# Altium integrated library Capacitor - Aluminium TH.IntLib: 4591 symbols (part 19 of 68)
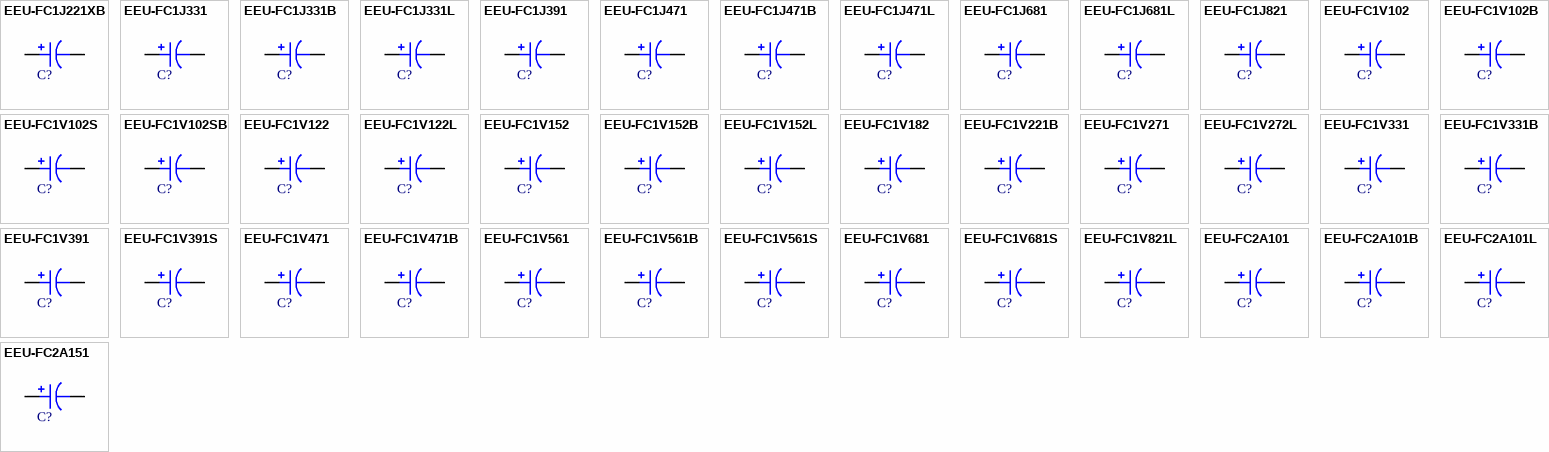
[diagram p132: symbols EEU-FC1J221XB to EEU-FC2A151]

## EEU-FC1J471
designator C?, comment 470uF  (value not drawn)
CAP ALUM 470UF 20% 63V RADIAL; Part Number: EEU-FC1J471; Manufacturer: Panasonic Electronic Components; TemperatureRange: -55C ~ 105C; Type: Polar; Ripple Current: 1.324A @ 120Hz; Impedance: 59 mOhm; Value: 470uF; PartId: 26293; Supplier 1: Digi-Key; Supplier Part Number 1: P10352-ND; ComponentLink1Description: Datasheet; ComponentLink1URL: http://industrial.panasonic.com/www-cgi/jvcr13pz.cgi?E+PZ+3+ABA0022+EEUFC1J471+7+WW; ComponentLink2Description: Digi-Key Listing; ComponentLink2URL: https://www.digikey.com/product-detail/en/panasonic-electronic-components/EEU-FC1J471/P10352-ND/266361; Tolerance: 20%; Voltage: 63V; Price: 1.09; Device Package: Radial, Can, 16mm
footprint CAP AL TH D16 L7.5 H20
pins: 1, 2

## EEU-FC1J471B
designator C?, comment 470uF  (value not drawn)
CAP ALUM 470UF 20% 63V RADIAL; Part Number: EEU-FC1J471B; Manufacturer: Panasonic Electronic Components; TemperatureRange: -55C ~ 105C; Type: Polar; Ripple Current: 1.324A @ 120Hz; Impedance: 59 mOhm; Value: 470uF; PartId: 26372; Supplier 1: Digi-Key; Supplier Part Number 1: P19670TB-ND; ComponentLink1Description: Datasheet; ComponentLink1URL: http://industrial.panasonic.com/www-cgi/jvcr13pz.cgi?E+PZ+3+ABA0022+EEUFC1J471B+7+WW; ComponentLink2Description: Digi-Key Listing; ComponentLink2URL: https://www.digikey.com/product-detail/en/panasonic-electronic-components/EEU-FC1J471B/P19670TB-ND/2689736; Tolerance: 20%; Voltage: 63V; Price: 0.6042; Device Package: Radial, Can, 16mm
footprint CAP AL TH D16 L7.5 H22
pins: 1, 2

## EEU-FC1J471L
designator C?, comment 470uF  (value not drawn)
CAP ALUM 470UF 20% 63V RADIAL; Part Number: EEU-FC1J471L; Manufacturer: Panasonic Electronic Components; TemperatureRange: -55C ~ 105C; Type: Polar; Ripple Current: 1.568A @ 120Hz; Impedance: 55 mOhm; Value: 470uF; PartId: 24245; Supplier 1: Digi-Key; Supplier Part Number 1: P10351-ND; ComponentLink1Description: Datasheet; ComponentLink1URL: http://industrial.panasonic.com/www-cgi/jvcr13pz.cgi?E+PZ+3+ABA0022+EEUFC1J471L+7+WW; ComponentLink2Description: Digi-Key Listing; ComponentLink2URL: https://www.digikey.com/product-detail/en/panasonic-electronic-components/EEU-FC1J471L/P10351-ND/266360; Tolerance: 20%; Voltage: 63V; Price: 1.02; Device Package: Radial, Can, 12.5mm
footprint CAP AL TH D12.5 L5 H35.5
pins: 1, 2

## EEU-FC1J681
designator C?, comment 680uF  (value not drawn)
CAP ALUM 680UF 20% 63V RADIAL; Part Number: EEU-FC1J681; Manufacturer: Panasonic Electronic Components; TemperatureRange: -55C ~ 105C; Type: Polar; Ripple Current: 1.62A @ 120Hz; Impedance: 50 mOhm; Value: 680uF; PartId: 26593; Supplier 1: Digi-Key; Supplier Part Number 1: P10354-ND; ComponentLink1Description: Datasheet; ComponentLink1URL: http://industrial.panasonic.com/www-cgi/jvcr13pz.cgi?E+PZ+3+ABA0022+EEUFC1J681+7+WW; ComponentLink2Description: Digi-Key Listing; ComponentLink2URL: https://www.digikey.com/product-detail/en/panasonic-electronic-components/EEU-FC1J681/P10354-ND/266363; Tolerance: 20%; Voltage: 63V; Price: 1.29; Device Package: Radial, Can, 16mm
footprint CAP AL TH D16 L7.5 H26.5
pins: 1, 2

## EEU-FC1J681L
designator C?, comment 680uF  (value not drawn)
CAP ALUM 680UF 20% 63V RADIAL; Part Number: EEU-FC1J681L; Manufacturer: Panasonic Electronic Components; TemperatureRange: -55C ~ 105C; Type: Polar; Ripple Current: 1.699A @ 120Hz; Impedance: 47 mOhm; Value: 680uF; PartId: 24314; Supplier 1: Digi-Key; Supplier Part Number 1: P10353-ND; ComponentLink1Description: Datasheet; ComponentLink1URL: http://industrial.panasonic.com/www-cgi/jvcr13pz.cgi?E+PZ+3+ABA0022+EEUFC1J681L+7+WW; ComponentLink2Description: Digi-Key Listing; ComponentLink2URL: https://www.digikey.com/product-detail/en/panasonic-electronic-components/EEU-FC1J681L/P10353-ND/266362; Tolerance: 20%; Voltage: 63V; Price: 1.25; Device Package: Radial, Can, 12.5mm
footprint CAP AL TH D12.5 L5 H35.5
pins: 1, 2

## EEU-FC1J821
designator C?, comment 820uF  (value not drawn)
CAP ALUM 820UF 20% 63V RADIAL; Part Number: EEU-FC1J821; Manufacturer: Panasonic Electronic Components; TemperatureRange: -55C ~ 105C; Type: Polar; Ripple Current: 2.003A @ 120Hz; Impedance: 43 mOhm; Value: 820uF; PartId: 27111; Supplier 1: Digi-Key; Supplier Part Number 1: P11278-ND; ComponentLink1Description: Datasheet; ComponentLink1URL: http://industrial.panasonic.com/www-cgi/jvcr13pz.cgi?E+PZ+3+ABA0022+EEUFC1J821+7+WW; ComponentLink2Description: Digi-Key Listing; ComponentLink2URL: https://www.digikey.com/product-detail/en/panasonic-electronic-components/EEU-FC1J821/P11278-ND/356178; Tolerance: 20%; Voltage: 63V; Price: 1.75; Device Package: Radial, Can, 16mm
footprint CAP AL TH D16 L7.5 H33.5
pins: 1, 2

## EEU-FC1V102
designator C?, comment 1000uF  (value not drawn)
CAP ALUM 1000UF 20% 35V RADIAL; Part Number: EEU-FC1V102; Manufacturer: Panasonic Electronic Components; TemperatureRange: -55C ~ 105C; Type: Polar; Ripple Current: 1.459A @ 120Hz; Impedance: 30 mOhm; Value: 1000uF; PartId: 23581; Supplier 1: Digi-Key; Supplier Part Number 1: P10305-ND; ComponentLink1Description: Datasheet; ComponentLink1URL: http://industrial.panasonic.com/www-cgi/jvcr13pz.cgi?E+PZ+3+ABA0022+EEUFC1V102+7+WW; ComponentLink2Description: Digi-Key Listing; ComponentLink2URL: https://www.digikey.com/product-detail/en/panasonic-electronic-components/EEU-FC1V102/P10305-ND/266314; Tolerance: 20%; Voltage: 35V; Price: 0.99; Device Package: Radial, Can, 12.5mm
footprint CAP AL TH D12.5 L5 H25
pins: 1, 2

## EEU-FC1V102B
designator C?, comment 1000uF  (value not drawn)
CAP ALUM 1000UF 20% 35V RADIAL; Part Number: EEU-FC1V102B; Manufacturer: Panasonic Electronic Components; TemperatureRange: -55C ~ 105C; Type: Polar; Ripple Current: 1.459A @ 120Hz; Impedance: 30 mOhm; Value: 1000uF; PartId: 23821; Supplier 1: Digi-Key; Supplier Part Number 1: P19672TB-ND; ComponentLink1Description: Datasheet; ComponentLink1URL: http://industrial.panasonic.com/www-cgi/jvcr13pz.cgi?E+PZ+3+ABA0022+EEUFC1V102B+7+WW; ComponentLink2Description: Digi-Key Listing; ComponentLink2URL: https://www.digikey.com/product-detail/en/panasonic-electronic-components/EEU-FC1V102B/P19672TB-ND/2689750; Tolerance: 20%; Voltage: 35V; Price: 0.4401; Device Package: Radial, Can, 12.5mm
footprint CAP AL TH D12.5 L5 H27
pins: 1, 2

## EEU-FC1V102S
designator C?, comment 1000uF  (value not drawn)
CAP ALUM 1000UF 20% 35V RADIAL; Part Number: EEU-FC1V102S; Manufacturer: Panasonic Electronic Components; TemperatureRange: -55C ~ 105C; Type: Polar; Ripple Current: 1.654A @ 120Hz; Impedance: 29 mOhm; Value: 1000uF; PartId: 26297; Supplier 1: Digi-Key; Supplier Part Number 1: P10876-ND; ComponentLink1Description: Datasheet; ComponentLink1URL: http://industrial.panasonic.com/www-cgi/jvcr13pz.cgi?E+PZ+3+ABA0022+EEUFC1V102S+7+WW; ComponentLink2Description: Digi-Key Listing; ComponentLink2URL: https://www.digikey.com/product-detail/en/panasonic-electronic-components/EEU-FC1V102S/P10876-ND/285715; Tolerance: 20%; Voltage: 35V; Price: 1.11; Device Package: Radial, Can, 16mm
footprint CAP AL TH D16 L7.5 H20
pins: 1, 2

## EEU-FC1V102SB
designator C?, comment 1000uF  (value not drawn)
CAP ALUM 1000UF 20% 35V RADIAL; Part Number: EEU-FC1V102SB; Manufacturer: Panasonic Electronic Components; TemperatureRange: -55C ~ 105C; Type: Polar; Ripple Current: 1.654A @ 120Hz; Impedance: 29 mOhm; Value: 1000uF; PartId: 26766; Supplier 1: Digi-Key; Supplier Part Number 1: P19673TB-ND; ComponentLink1Description: Datasheet; ComponentLink1URL: http://industrial.panasonic.com/www-cgi/jvcr13pz.cgi?E+PZ+3+ABA0022+EEUFC1V102SB+7+WW; ComponentLink2Description: Digi-Key Listing; ComponentLink2URL: https://www.digikey.com/product-detail/en/panasonic-electronic-components/EEU-FC1V102SB/P19673TB-ND/2689751; Tolerance: 20%; Voltage: 35V; Price: 0.6042; Device Package: Radial, Can, 16mm
footprint CAP AL TH D16 L7.5 H27
pins: 1, 2

## EEU-FC1V122
designator C?, comment 1200uF  (value not drawn)
CAP ALUM 1200UF 20% 35V RADIAL; Part Number: EEU-FC1V122; Manufacturer: Panasonic Electronic Components; TemperatureRange: -55C ~ 105C; Type: Polar; Ripple Current: 1.764A @ 120Hz; Impedance: 29 mOhm; Value: 1200uF; PartId: 26294; Supplier 1: Digi-Key; Supplier Part Number 1: P11242-ND; ComponentLink1Description: Datasheet; ComponentLink1URL: http://industrial.panasonic.com/www-cgi/jvcr13pz.cgi?E+PZ+3+ABA0022+EEUFC1V122+7+WW; ComponentLink2Description: Digi-Key Listing; ComponentLink2URL: https://www.digikey.com/product-detail/en/panasonic-electronic-components/EEU-FC1V122/P11242-ND/356144; Tolerance: 20%; Voltage: 35V; Price: 1.09; Device Package: Radial, Can, 16mm
footprint CAP AL TH D16 L7.5 H20
pins: 1, 2

## EEU-FC1V122L
designator C?, comment 1200uF  (value not drawn)
CAP ALUM 1200UF 20% 35V RADIAL; Part Number: EEU-FC1V122L; Manufacturer: Panasonic Electronic Components; TemperatureRange: -55C ~ 105C; Type: Polar; Ripple Current: 1.848A @ 120Hz; Impedance: 25 mOhm; Value: 1200uF; PartId: 24247; Supplier 1: Digi-Key; Supplier Part Number 1: P10306-ND; ComponentLink1Description: Datasheet; ComponentLink1URL: http://industrial.panasonic.com/www-cgi/jvcr13pz.cgi?E+PZ+3+ABA0022+EEUFC1V122L+7+WW; ComponentLink2Description: Digi-Key Listing; ComponentLink2URL: https://www.digikey.com/product-detail/en/panasonic-electronic-components/EEU-FC1V122L/P10306-ND/266315; Tolerance: 20%; Voltage: 35V; Price: 1.02; Device Package: Radial, Can, 12.5mm
footprint CAP AL TH D12.5 L5 H35.5
pins: 1, 2

## EEU-FC1V152
designator C?, comment 1500uF  (value not drawn)
CAP ALUM 1500UF 20% 35V RADIAL; Part Number: EEU-FC1V152; Manufacturer: Panasonic Electronic Components; TemperatureRange: -55C ~ 105C; Type: Polar; Ripple Current: 2.044A @ 120Hz; Impedance: 22 mOhm; Value: 1500uF; PartId: 26595; Supplier 1: Digi-Key; Supplier Part Number 1: P10308-ND; ComponentLink1Description: Datasheet; ComponentLink1URL: http://industrial.panasonic.com/www-cgi/jvcr13pz.cgi?E+PZ+3+ABA0022+EEUFC1V152+7+WW; ComponentLink2Description: Digi-Key Listing; ComponentLink2URL: https://www.digikey.com/product-detail/en/panasonic-electronic-components/EEU-FC1V152/P10308-ND/266317; Tolerance: 20%; Voltage: 35V; Price: 1.3; Device Package: Radial, Can, 16mm
footprint CAP AL TH D16 L7.5 H26.5
pins: 1, 2

## EEU-FC1V152B
designator C?, comment 1500uF  (value not drawn)
CAP ALUM 1500UF 20% 35V RADIAL; Part Number: EEU-FC1V152B; Manufacturer: Panasonic Electronic Components; TemperatureRange: -55C ~ 105C; Type: Polar; Ripple Current: 2.044A @ 120Hz; Impedance: 22 mOhm; Value: 1500uF; PartId: 26798; Supplier 1: Digi-Key; Supplier Part Number 1: P19676TB-ND; ComponentLink1Description: Datasheet; ComponentLink1URL: http://industrial.panasonic.com/www-cgi/jvcr13pz.cgi?E+PZ+3+ABA0022+EEUFC1V152B+7+WW; ComponentLink2Description: Digi-Key Listing; ComponentLink2URL: https://www.digikey.com/product-detail/en/panasonic-electronic-components/EEU-FC1V152B/P19676TB-ND/2689757; Tolerance: 20%; Voltage: 35V; Price: 0.7192; Device Package: Radial, Can, 16mm
footprint CAP AL TH D16 L7.5 H27
pins: 1, 2

## EEU-FC1V152L
designator C?, comment 1500uF  (value not drawn)
CAP ALUM 1500UF 20% 35V RADIAL; Part Number: EEU-FC1V152L; Manufacturer: Panasonic Electronic Components; TemperatureRange: -55C ~ 105C; Type: Polar; Ripple Current: 2.008A @ 120Hz; Impedance: 22 mOhm; Value: 1500uF; PartId: 24296; Supplier 1: Digi-Key; Supplier Part Number 1: P10307-ND; ComponentLink1Description: Datasheet; ComponentLink1URL: http://industrial.panasonic.com/www-cgi/jvcr13pz.cgi?E+PZ+3+ABA0022+EEUFC1V152L+7+WW; ComponentLink2Description: Digi-Key Listing; ComponentLink2URL: https://www.digikey.com/product-detail/en/panasonic-electronic-components/EEU-FC1V152L/P10307-ND/266316; Tolerance: 20%; Voltage: 35V; Price: 1.18; Device Package: Radial, Can, 12.5mm
footprint CAP AL TH D12.5 L5 H35.5
pins: 1, 2

## EEU-FC1V182
designator C?, comment 1800uF  (value not drawn)
CAP ALUM 1800UF 20% 35V RADIAL; Part Number: EEU-FC1V182; Manufacturer: Panasonic Electronic Components; TemperatureRange: -55C ~ 105C; Type: Polar; Ripple Current: 2.044A @ 120Hz; Impedance: 22 mOhm; Value: 1800uF; PartId: 26878; Supplier 1: Digi-Key; Supplier Part Number 1: P11245-ND; ComponentLink1Description: Datasheet; ComponentLink1URL: http://industrial.panasonic.com/www-cgi/jvcr13pz.cgi?E+PZ+3+ABA0022+EEUFC1V182+7+WW; ComponentLink2Description: Digi-Key Listing; ComponentLink2URL: https://www.digikey.com/product-detail/en/panasonic-electronic-components/EEU-FC1V182/P11245-ND/356147; Tolerance: 20%; Voltage: 35V; Price: 1.3; Device Package: Radial, Can, 16mm
footprint CAP AL TH D16 L7.5 H27
pins: 1, 2

## EEU-FC1V221B
designator C?, comment 220uF  (value not drawn)
CAP ALUM 220UF 20% 35V RADIAL; Part Number: EEU-FC1V221B; Manufacturer: Panasonic Electronic Components; TemperatureRange: -55C ~ 105C; Type: Polar; Ripple Current: 490.8mA @ 120Hz; Impedance: 90 mOhm; Value: 220uF; PartId: 24595; Supplier 1: Digi-Key; Supplier Part Number 1: P19679TB-ND; ComponentLink1Description: Datasheet; ComponentLink1URL: https://industrial.panasonic.com/cdbs/www-data/pdf/RDF0000/ABA0000C59.pdf; ComponentLink2Description: Digi-Key Listing; ComponentLink2URL: https://www.digikey.com/product-detail/en/panasonic-electronic-components/EEU-FC1V221B/P19679TB-ND/616211; Tolerance: 20%; Voltage: 35V; Price: 0.1728; Device Package: Radial, Can, 10mm
footprint CAP AL TH D10 L5 H14.5
pins: 1, 2

## EEU-FC1V271
designator C?, comment 270uF  (value not drawn)
CAP ALUM 270UF 20% 35V RADIAL; Part Number: EEU-FC1V271; Manufacturer: Panasonic Electronic Components; TemperatureRange: -55C ~ 105C; Type: Polar; Ripple Current: 682.5mA @ 120Hz; Impedance: 68 mOhm; Value: 270uF; PartId: 25332; Supplier 1: Digi-Key; Supplier Part Number 1: P11236-ND; ComponentLink1Description: Datasheet; ComponentLink1URL: http://industrial.panasonic.com/www-cgi/jvcr13pz.cgi?E+PZ+3+ABA0022+EEUFC1V271+7+WW; ComponentLink2Description: Digi-Key Listing; ComponentLink2URL: https://www.digikey.com/product-detail/en/panasonic-electronic-components/EEU-FC1V271/P11236-ND/356139; Tolerance: 20%; Voltage: 35V; Price: 0.67; Device Package: Radial, Can, 10mm
footprint CAP AL TH D10 L5 H17.5
pins: 1, 2

## EEU-FC1V272L
designator C?, comment 2700uF  (value not drawn)
CAP ALUM 2700UF 20% 35V RADIAL; Part Number: EEU-FC1V272L; Manufacturer: Panasonic Electronic Components; TemperatureRange: -55C ~ 105C; Type: Polar; Ripple Current: 2.678A @ 120Hz; Impedance: 16 mOhm; Value: 2700uF; PartId: 27361; Supplier 1: Digi-Key; Supplier Part Number 1: P11247-ND; ComponentLink1Description: Datasheet; ComponentLink1URL: http://industrial.panasonic.com/www-cgi/jvcr13pz.cgi?E+PZ+3+ABA0022+EEUFC1V272L+7+WW; ComponentLink2Description: Digi-Key Listing; ComponentLink2URL: https://www.digikey.com/product-detail/en/panasonic-electronic-components/EEU-FC1V272L/P11247-ND/356149; Tolerance: 20%; Voltage: 35V; Price: 1.79; Device Package: Radial, Can, 16mm
footprint CAP AL TH D16 L7.5 H37
pins: 1, 2

## EEU-FC1V331
designator C?, comment 330uF  (value not drawn)
CAP ALUM 330UF 20% 35V RADIAL; Part Number: EEU-FC1V331; Manufacturer: Panasonic Electronic Components; TemperatureRange: -55C ~ 105C; Type: Polar; Ripple Current: 682.5mA @ 120Hz; Impedance: 68 mOhm; Value: 330uF; PartId: 25285; Supplier 1: Digi-Key; Supplier Part Number 1: P10299-ND; ComponentLink1Description: Datasheet; ComponentLink1URL: http://industrial.panasonic.com/www-cgi/jvcr13pz.cgi?E+PZ+3+ABA0022+EEUFC1V331+7+WW; ComponentLink2Description: Digi-Key Listing; ComponentLink2URL: https://www.digikey.com/product-detail/en/panasonic-electronic-components/EEU-FC1V331/P10299-ND/266308; Tolerance: 20%; Voltage: 35V; Price: 0.63; Device Package: Radial, Can, 10mm
footprint CAP AL TH D10 L5 H17.5
pins: 1, 2

## EEU-FC1V331B
designator C?, comment 330uF  (value not drawn)
CAP ALUM 330UF 20% 35V RADIAL; Part Number: EEU-FC1V331B; Manufacturer: Panasonic Electronic Components; TemperatureRange: -55C ~ 105C; Type: Polar; Ripple Current: 682.5mA @ 120Hz; Impedance: 68 mOhm; Value: 330uF; PartId: 25061; Supplier 1: Digi-Key; Supplier Part Number 1: P19682TB-ND; ComponentLink1Description: Datasheet; ComponentLink1URL: http://industrial.panasonic.com/www-cgi/jvcr13pz.cgi?E+PZ+3+ABA0022+EEUFC1V331B+7+WW; ComponentLink2Description: Digi-Key Listing; ComponentLink2URL: https://www.digikey.com/product-detail/en/panasonic-electronic-components/EEU-FC1V331B/P19682TB-ND/806115; Tolerance: 20%; Voltage: 35V; Price: 0.2186; Device Package: Radial, Can, 10mm
footprint CAP AL TH D10 L5 H17.5
pins: 1, 2

## EEU-FC1V391
designator C?, comment 390uF  (value not drawn)
CAP ALUM 390UF 20% 35V RADIAL; Part Number: EEU-FC1V391; Manufacturer: Panasonic Electronic Components; TemperatureRange: -55C ~ 105C; Type: Polar; Ripple Current: 915mA @ 120Hz; Impedance: 52 mOhm; Value: 390uF; PartId: 25579; Supplier 1: Digi-Key; Supplier Part Number 1: P11237-ND; ComponentLink1Description: Datasheet; ComponentLink1URL: http://industrial.panasonic.com/www-cgi/jvcr13pz.cgi?E+PZ+3+ABA0022+EEUFC1V391+7+WW; ComponentLink2Description: Digi-Key Listing; ComponentLink2URL: https://www.digikey.com/product-detail/en/panasonic-electronic-components/EEU-FC1V391/P11237-ND/356140; Tolerance: 20%; Voltage: 35V; Price: 0.66; Device Package: Radial, Can, 10mm
footprint CAP AL TH D10 L5 H22
pins: 1, 2

## EEU-FC1V391S
designator C?, comment 390uF  (value not drawn)
CAP ALUM 390UF 20% 35V RADIAL; Part Number: EEU-FC1V391S; Manufacturer: Panasonic Electronic Components; TemperatureRange: -55C ~ 105C; Type: Polar; Ripple Current: 903.8mA @ 120Hz; Impedance: 65 mOhm; Value: 390uF; PartId: 22718; Supplier 1: Digi-Key; Supplier Part Number 1: P10300-ND; ComponentLink1Description: Datasheet; ComponentLink1URL: http://industrial.panasonic.com/www-cgi/jvcr13pz.cgi?E+PZ+3+ABA0022+EEUFC1V391S+7+WW; ComponentLink2Description: Digi-Key Listing; ComponentLink2URL: https://www.digikey.com/product-detail/en/panasonic-electronic-components/EEU-FC1V391S/P10300-ND/266309; Tolerance: 20%; Voltage: 35V; Price: 0; Device Package: Radial, Can, 12.5mm
footprint CAP AL TH D12.5 L5 H15
pins: 1, 2

## EEU-FC1V471
designator C?, comment 470uF  (value not drawn)
CAP ALUM 470UF 20% 35V RADIAL; Part Number: EEU-FC1V471; Manufacturer: Panasonic Electronic Components; TemperatureRange: -55C ~ 105C; Type: Polar; Ripple Current: 915mA @ 120Hz; Impedance: 52 mOhm; Value: 470uF; PartId: 25656; Supplier 1: Digi-Key; Supplier Part Number 1: P10301-ND; ComponentLink1Description: Datasheet; ComponentLink1URL: http://industrial.panasonic.com/www-cgi/jvcr13pz.cgi?E+PZ+3+ABA0022+EEUFC1V471+7+WW; ComponentLink2Description: Digi-Key Listing; ComponentLink2URL: https://www.digikey.com/product-detail/en/panasonic-electronic-components/EEU-FC1V471/P10301-ND/266310; Tolerance: 20%; Voltage: 35V; Price: 0.75; Device Package: Radial, Can, 10mm
footprint CAP AL TH D10 L5 H22
pins: 1, 2

## EEU-FC1V471B
designator C?, comment 470uF  (value not drawn)
CAP ALUM 470UF 20% 35V RADIAL; Part Number: EEU-FC1V471B; Manufacturer: Panasonic Electronic Components; TemperatureRange: -55C ~ 105C; Type: Polar; Ripple Current: 915mA @ 120Hz; Impedance: 52 mOhm; Value: 470uF; PartId: 25465; Supplier 1: Digi-Key; Supplier Part Number 1: P19683TB-ND; ComponentLink1Description: Datasheet; ComponentLink1URL: http://industrial.panasonic.com/www-cgi/jvcr13pz.cgi?E+PZ+3+ABA0022+EEUFC1V471B+7+WW; ComponentLink2Description: Digi-Key Listing; ComponentLink2URL: https://www.digikey.com/product-detail/en/panasonic-electronic-components/EEU-FC1V471B/P19683TB-ND/1693223; Tolerance: 20%; Voltage: 35V; Price: 0.2624; Device Package: Radial, Can, 10mm
footprint CAP AL TH D10 L5 H22
pins: 1, 2

## EEU-FC1V561
designator C?, comment 560uF  (value not drawn)
CAP ALUM 560UF 20% 35V RADIAL; Part Number: EEU-FC1V561; Manufacturer: Panasonic Electronic Components; TemperatureRange: -55C ~ 105C; Type: Polar; Ripple Current: 1.08A @ 120Hz; Impedance: 45 mOhm; Value: 560uF; PartId: 26091; Supplier 1: Digi-Key; Supplier Part Number 1: P11238-ND; ComponentLink1Description: Datasheet; ComponentLink1URL: http://industrial.panasonic.com/www-cgi/jvcr13pz.cgi?E+PZ+3+ABA0022+EEUFC1V561+7+WW; ComponentLink2Description: Digi-Key Listing; ComponentLink2URL: https://www.digikey.com/product-detail/en/panasonic-electronic-components/EEU-FC1V561/P11238-ND/356141; Tolerance: 20%; Voltage: 35V; Price: 0.74; Device Package: Radial, Can, 10mm
footprint CAP AL TH D10 L5 H30
pins: 1, 2

## EEU-FC1V561B
designator C?, comment 560uF  (value not drawn)
CAP ALUM 560UF 20% 35V RADIAL; Part Number: EEU-FC1V561B; Manufacturer: Panasonic Electronic Components; TemperatureRange: -55C ~ 105C; Type: Polar; Ripple Current: 1.08A @ 120Hz; Impedance: 45 mOhm; Value: 560uF; PartId: 26012; Supplier 1: Digi-Key; Supplier Part Number 1: P19685TB-ND; ComponentLink1Description: Datasheet; ComponentLink1URL: http://industrial.panasonic.com/www-cgi/jvcr13pz.cgi?E+PZ+3+ABA0022+EEUFC1V561B+7+WW; ComponentLink2Description: Digi-Key Listing; ComponentLink2URL: https://www.digikey.com/product-detail/en/panasonic-electronic-components/EEU-FC1V561B/P19685TB-ND/2689781; Tolerance: 20%; Voltage: 35V; Price: 0.295; Device Package: Radial, Can, 10mm
footprint CAP AL TH D10 L5 H30
pins: 1, 2

## EEU-FC1V561S
designator C?, comment 560uF  (value not drawn)
CAP ALUM 560UF 20% 35V RADIAL; Part Number: EEU-FC1V561S; Manufacturer: Panasonic Electronic Components; TemperatureRange: -55C ~ 105C; Type: Polar; Ripple Current: 1.241A @ 120Hz; Impedance: 38 mOhm; Value: 560uF; PartId: 22889; Supplier 1: Digi-Key; Supplier Part Number 1: P11239-ND; ComponentLink1Description: Datasheet; ComponentLink1URL: http://industrial.panasonic.com/www-cgi/jvcr13pz.cgi?E+PZ+3+ABA0022+EEUFC1V561S+7+WW; ComponentLink2Description: Digi-Key Listing; ComponentLink2URL: https://www.digikey.com/product-detail/en/panasonic-electronic-components/EEU-FC1V561S/P11239-ND/356142; Tolerance: 20%; Voltage: 35V; Price: 0; Device Package: Radial, Can, 12.5mm
footprint CAP AL TH D12.5 L5 H20
pins: 1, 2

## EEU-FC1V681
designator C?, comment 680uF  (value not drawn)
CAP ALUM 680UF 20% 35V RADIAL; Part Number: EEU-FC1V681; Manufacturer: Panasonic Electronic Components; TemperatureRange: -55C ~ 105C; Type: Polar; Ripple Current: 1.241A @ 120Hz; Impedance: 38 mOhm; Value: 680uF; PartId: 22891; Supplier 1: Digi-Key; Supplier Part Number 1: P10302-ND; ComponentLink1Description: Datasheet; ComponentLink1URL: http://industrial.panasonic.com/www-cgi/jvcr13pz.cgi?E+PZ+3+ABA0022+EEUFC1V681+7+WW; ComponentLink2Description: Digi-Key Listing; ComponentLink2URL: https://www.digikey.com/product-detail/en/panasonic-electronic-components/EEU-FC1V681/P10302-ND/266311; Tolerance: 20%; Voltage: 35V; Price: 0; Device Package: Radial, Can, 12.5mm
footprint CAP AL TH D12.5 L5 H20
pins: 1, 2

## EEU-FC1V681S
designator C?, comment 680uF  (value not drawn)
CAP ALUM 680UF 20% 35V RADIAL; Part Number: EEU-FC1V681S; Manufacturer: Panasonic Electronic Components; TemperatureRange: -55C ~ 105C; Type: Polar; Ripple Current: 1.268A @ 120Hz; Impedance: 43 mOhm; Value: 680uF; PartId: 26217; Supplier 1: Digi-Key; Supplier Part Number 1: P10303-ND; ComponentLink1Description: Datasheet; ComponentLink1URL: http://industrial.panasonic.com/www-cgi/jvcr13pz.cgi?E+PZ+3+ABA0022+EEUFC1V681S+7+WW; ComponentLink2Description: Digi-Key Listing; ComponentLink2URL: https://www.digikey.com/product-detail/en/panasonic-electronic-components/EEU-FC1V681S/P10303-ND/266312; Tolerance: 20%; Voltage: 35V; Price: 1.05; Device Package: Radial, Can, 16mm
footprint CAP AL TH D16 L7.5 H16.5
pins: 1, 2

## EEU-FC1V821L
designator C?, comment 820uF  (value not drawn)
CAP ALUM 820UF 20% 35V RADIAL; Part Number: EEU-FC1V821L; Manufacturer: Panasonic Electronic Components; TemperatureRange: -55C ~ 105C; Type: Polar; Ripple Current: 1.459A @ 120Hz; Impedance: 30 mOhm; Value: 820uF; PartId: 23590; Supplier 1: Digi-Key; Supplier Part Number 1: P11241-ND; ComponentLink1Description: Datasheet; ComponentLink1URL: http://industrial.panasonic.com/www-cgi/jvcr13pz.cgi?E+PZ+3+ABA0022+EEUFC1V821L+7+WW; ComponentLink2Description: Digi-Key Listing; ComponentLink2URL: https://www.digikey.com/product-detail/en/panasonic-electronic-components/EEU-FC1V821L/P11241-ND/356143; Tolerance: 20%; Voltage: 35V; Price: 1.01; Device Package: Radial, Can, 12.5mm
footprint CAP AL TH D12.5 L5 H25
pins: 1, 2

## EEU-FC2A101
designator C?, comment 100uF  (value not drawn)
CAP ALUM 100UF 20% 100V RADIAL; Part Number: EEU-FC2A101; Manufacturer: Panasonic Electronic Components; TemperatureRange: -55C ~ 105C; Type: Polar; Ripple Current: 436.2mA @ 120Hz; Impedance: 180 mOhm; Value: 100uF; PartId: 22912; Supplier 1: Digi-Key; Supplier Part Number 1: P10776-ND; ComponentLink1Description: Datasheet; ComponentLink1URL: http://industrial.panasonic.com/www-cgi/jvcr13pz.cgi?E+PZ+3+ABA0022+EEUFC2A101+7+WW; ComponentLink2Description: Digi-Key Listing; ComponentLink2URL: https://www.digikey.com/product-detail/en/panasonic-electronic-components/EEU-FC2A101/P10776-ND/285728; Tolerance: 20%; Voltage: 100V; Price: 0; Device Package: Radial, Can, 12.5mm
footprint CAP AL TH D12.5 L5 H20
pins: 1, 2

## EEU-FC2A101B
designator C?, comment 100uF  (value not drawn)
CAP ALUM 100UF 20% 100V RADIAL; Part Number: EEU-FC2A101B; Manufacturer: Panasonic Electronic Components; TemperatureRange: -55C ~ 105C; Type: Polar; Ripple Current: 436.2mA @ 120Hz; Impedance: 180 mOhm; Value: 100uF; PartId: 22931; Supplier 1: Digi-Key; Supplier Part Number 1: P19687CT-ND; ComponentLink1Description: Datasheet; ComponentLink1URL: https://industrial.panasonic.com/cdbs/www-data/pdf/RDF0000/ABA0000C59.pdf; ComponentLink2Description: Digi-Key Listing; ComponentLink2URL: https://www.digikey.com/product-detail/en/panasonic-electronic-components/EEU-FC2A101B/P19687CT-ND/6109585; Tolerance: 20%; Voltage: 100V; Price: 0; Device Package: Radial, Can, 12.5mm
footprint CAP AL TH D12.5 L5 H20
pins: 1, 2

## EEU-FC2A101L
designator C?, comment 100uF  (value not drawn)
CAP ALUM 100UF 20% 100V RADIAL; Part Number: EEU-FC2A101L; Manufacturer: Panasonic Electronic Components; TemperatureRange: -55C ~ 105C; Type: Polar; Ripple Current: 453.7mA @ 120Hz; Impedance: 150 mOhm; Value: 100uF; PartId: 26155; Supplier 1: Digi-Key; Supplier Part Number 1: P10775-ND; ComponentLink1Description: Datasheet; ComponentLink1URL: http://industrial.panasonic.com/www-cgi/jvcr13pz.cgi?E+PZ+3+ABA0022+EEUFC2A101L+7+WW; ComponentLink2Description: Digi-Key Listing; ComponentLink2URL: https://www.digikey.com/product-detail/en/panasonic-electronic-components/EEU-FC2A101L/P10775-ND/285727; Tolerance: 20%; Voltage: 100V; Price: 0.86; Device Package: Radial, Can, 10mm
footprint CAP AL TH D10 L5 H30
pins: 1, 2

## EEU-FC2A151
designator C?, comment 150uF  (value not drawn)
CAP ALUM 150UF 20% 100V RADIAL; Part Number: EEU-FC2A151; Manufacturer: Panasonic Electronic Components; TemperatureRange: -55C ~ 105C; Type: Polar; Ripple Current: 524.6mA @ 120Hz; Impedance: 110 mOhm; Value: 150uF; PartId: 23583; Supplier 1: Digi-Key; Supplier Part Number 1: P10777-ND; ComponentLink1Description: Datasheet; ComponentLink1URL: http://industrial.panasonic.com/www-cgi/jvcr13pz.cgi?E+PZ+3+ABA0022+EEUFC2A151+7+WW; ComponentLink2Description: Digi-Key Listing; ComponentLink2URL: https://www.digikey.com/product-detail/en/panasonic-electronic-components/EEU-FC2A151/P10777-ND/285729; Tolerance: 20%; Voltage: 100V; Price: 0.99; Device Package: Radial, Can, 12.5mm
footprint CAP AL TH D12.5 L5 H25
pins: 1, 2

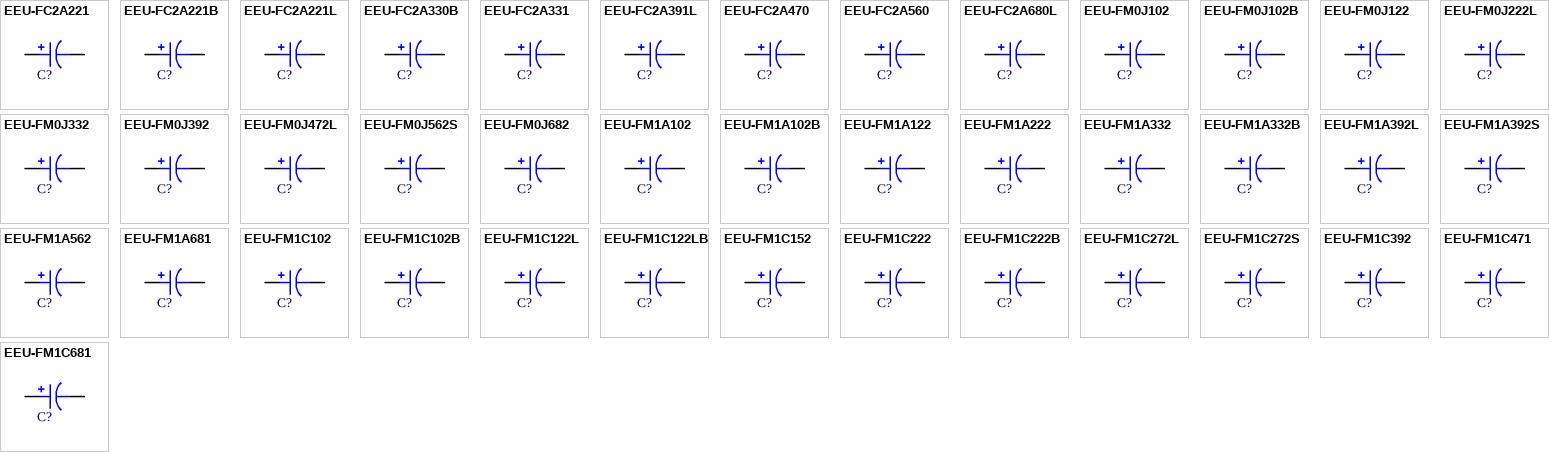
[diagram p31: symbols EEU-FC2A221 to EEU-FM1C681]

## EEU-FC2A221
designator C?, comment 220uF  (value not drawn)
CAP ALUM 220UF 20% 100V RADIAL; Part Number: EEU-FC2A221; Manufacturer: Panasonic Electronic Components; TemperatureRange: -55C ~ 105C; Type: Polar; Ripple Current: 760.5mA @ 120Hz; Impedance: 89 mOhm; Value: 220uF; PartId: 26622; Supplier 1: Digi-Key; Supplier Part Number 1: P10780-ND; ComponentLink1Description: Datasheet; ComponentLink1URL: http://industrial.panasonic.com/www-cgi/jvcr13pz.cgi?E+PZ+3+ABA0022+EEUFC2A221+7+WW; ComponentLink2Description: Digi-Key Listing; ComponentLink2URL: https://www.digikey.com/product-detail/en/panasonic-electronic-components/EEU-FC2A221/P10780-ND/285732; Tolerance: 20%; Voltage: 100V; Price: 1.43; Device Package: Radial, Can, 16mm
footprint CAP AL TH D16 L7.5 H26.5
pins: 1, 2

## EEU-FC2A221B
designator C?, comment 220uF  (value not drawn)
CAP ALUM 220UF 20% 100V RADIAL; Part Number: EEU-FC2A221B; Manufacturer: Panasonic Electronic Components; TemperatureRange: -55C ~ 105C; Type: Polar; Ripple Current: 760.5mA @ 120Hz; Impedance: 89 mOhm; Value: 220uF; PartId: 26803; Supplier 1: Digi-Key; Supplier Part Number 1: P19691TB-ND; ComponentLink1Description: Datasheet; ComponentLink1URL: http://industrial.panasonic.com/www-cgi/jvcr13pz.cgi?E+PZ+3+ABA0022+EEUFC2A221B+7+WW; ComponentLink2Description: Digi-Key Listing; ComponentLink2URL: https://www.digikey.com/product-detail/en/panasonic-electronic-components/EEU-FC2A221B/P19691TB-ND/2689811; Tolerance: 20%; Voltage: 100V; Price: 0.7912; Device Package: Radial, Can, 16mm
footprint CAP AL TH D16 L7.5 H27
pins: 1, 2

## EEU-FC2A221L
designator C?, comment 220uF  (value not drawn)
CAP ALUM 220UF 20% 100V RADIAL; Part Number: EEU-FC2A221L; Manufacturer: Panasonic Electronic Components; TemperatureRange: -55C ~ 105C; Type: Polar; Ripple Current: 676mA @ 120Hz; Impedance: 87 mOhm; Value: 220uF; PartId: 24343; Supplier 1: Digi-Key; Supplier Part Number 1: P10779-ND; ComponentLink1Description: Datasheet; ComponentLink1URL: http://industrial.panasonic.com/www-cgi/jvcr13pz.cgi?E+PZ+3+ABA0022+EEUFC2A221L+7+WW; ComponentLink2Description: Digi-Key Listing; ComponentLink2URL: https://www.digikey.com/product-detail/en/panasonic-electronic-components/EEU-FC2A221L/P10779-ND/285731; Tolerance: 20%; Voltage: 100V; Price: 1.37; Device Package: Radial, Can, 12.5mm
footprint CAP AL TH D12.5 L5 H35.5
pins: 1, 2

## EEU-FC2A330B
designator C?, comment 33uF  (value not drawn)
CAP ALUM 33UF 20% 100V RADIAL; Part Number: EEU-FC2A330B; Manufacturer: Panasonic Electronic Components; TemperatureRange: -55C ~ 105C; Type: Polar; Ripple Current: 198.9mA @ 120Hz; Impedance: 530 mOhm; Value: 33uF; PartId: 24609; Supplier 1: Digi-Key; Supplier Part Number 1: P19692TB-ND; ComponentLink1Description: Datasheet; ComponentLink1URL: http://industrial.panasonic.com/www-cgi/jvcr13pz.cgi?E+PZ+3+ABA0022+EEUFC2A330B+7+WW; ComponentLink2Description: Digi-Key Listing; ComponentLink2URL: https://www.digikey.com/product-detail/en/panasonic-electronic-components/EEU-FC2A330B/P19692TB-ND/2689816; Tolerance: 20%; Voltage: 100V; Price: 0.1898; Device Package: Radial, Can, 10mm
footprint CAP AL TH D10 L5 H14.5
pins: 1, 2

## EEU-FC2A331
designator C?, comment 330uF  (value not drawn)
CAP ALUM 330UF 20% 100V RADIAL; Part Number: EEU-FC2A331; Manufacturer: Panasonic Electronic Components; TemperatureRange: -55C ~ 105C; Type: Polar; Ripple Current: 988mA @ 120Hz; Impedance: 62 mOhm; Value: 330uF; PartId: 27089; Supplier 1: Digi-Key; Supplier Part Number 1: P10782-ND; ComponentLink1Description: Datasheet; ComponentLink1URL: http://industrial.panasonic.com/www-cgi/jvcr13pz.cgi?E+PZ+3+ABA0022+EEUFC2A331+7+WW; ComponentLink2Description: Digi-Key Listing; ComponentLink2URL: https://www.digikey.com/product-detail/en/panasonic-electronic-components/EEU-FC2A331/P10782-ND/285734; Tolerance: 20%; Voltage: 100V; Price: 1.72; Device Package: Radial, Can, 16mm
footprint CAP AL TH D16 L7.5 H33.5
pins: 1, 2

## EEU-FC2A391L
designator C?, comment 390uF  (value not drawn)
CAP ALUM 390UF 20% 100V RADIAL; Part Number: EEU-FC2A391L; Manufacturer: Panasonic Electronic Components; TemperatureRange: -55C ~ 105C; Type: Polar; Ripple Current: 1.298A @ 120Hz; Impedance: 53 mOhm; Value: 390uF; PartId: 27392; Supplier 1: Digi-Key; Supplier Part Number 1: P10784-ND; ComponentLink1Description: Datasheet; ComponentLink1URL: http://industrial.panasonic.com/www-cgi/jvcr13pz.cgi?E+PZ+3+ABA0022+EEUFC2A391L+7+WW; ComponentLink2Description: Digi-Key Listing; ComponentLink2URL: https://www.digikey.com/product-detail/en/panasonic-electronic-components/EEU-FC2A391L/P10784-ND/285736; Tolerance: 20%; Voltage: 100V; Price: 1.97; Device Package: Radial, Can, 16mm
footprint CAP AL TH D16 L7.5 H37
pins: 1, 2

## EEU-FC2A470
designator C?, comment 47uF  (value not drawn)
CAP ALUM 47UF 20% 100V RADIAL; Part Number: EEU-FC2A470; Manufacturer: Panasonic Electronic Components; TemperatureRange: -55C ~ 105C; Type: Polar; Ripple Current: 301mA @ 120Hz; Impedance: 240 mOhm; Value: 47uF; PartId: 25598; Supplier 1: Digi-Key; Supplier Part Number 1: P10773-ND; ComponentLink1Description: Datasheet; ComponentLink2Description: Digi-Key Listing; ComponentLink2URL: https://www.digikey.com/product-detail/en/panasonic-electronic-components/EEU-FC2A470/P10773-ND/285725; Tolerance: 20%; Voltage: 100V; Price: 0.69; Device Package: Radial, Can, 10mm
footprint CAP AL TH D10 L5 H22
pins: 1, 2

## EEU-FC2A560
designator C?, comment 56uF  (value not drawn)
CAP ALUM 56UF 20% 100V RADIAL; Part Number: EEU-FC2A560; Manufacturer: Panasonic Electronic Components; TemperatureRange: -55C ~ 105C; Type: Polar; Ripple Current: 301mA @ 120Hz; Impedance: 240 mOhm; Value: 56uF; PartId: 25924; Supplier 1: Digi-Key; Supplier Part Number 1: P19499-ND; ComponentLink1Description: Datasheet; ComponentLink1URL: http://industrial.panasonic.com/www-cgi/jvcr13pz.cgi?E+PZ+3+ABA0022+EEUFC2A560+7+WW; ComponentLink2Description: Digi-Key Listing; ComponentLink2URL: https://www.digikey.com/product-detail/en/panasonic-electronic-components/EEU-FC2A560/P19499-ND/2689831; Tolerance: 20%; Voltage: 100V; Price: 0.72; Device Package: Radial, Can, 10mm
footprint CAP AL TH D10 L5 H22
pins: 1, 2

## EEU-FC2A680L
designator C?, comment 68uF  (value not drawn)
CAP ALUM 68UF 20% 100V RADIAL; Part Number: EEU-FC2A680L; Manufacturer: Panasonic Electronic Components; TemperatureRange: -55C ~ 105C; Type: Polar; Ripple Current: 295.8mA @ 120Hz; Impedance: 210 mOhm; Value: 68uF; PartId: 26133; Supplier 1: Digi-Key; Supplier Part Number 1: P10774-ND; ComponentLink1Description: Datasheet; ComponentLink1URL: http://industrial.panasonic.com/www-cgi/jvcr13pz.cgi?E+PZ+3+ABA0022+EEUFC2A680L+7+WW; ComponentLink2Description: Digi-Key Listing; ComponentLink2URL: https://www.digikey.com/product-detail/en/panasonic-electronic-components/EEU-FC2A680L/P10774-ND/285726; Tolerance: 20%; Voltage: 100V; Price: 0.81; Device Package: Radial, Can, 10mm
footprint CAP AL TH D10 L5 H30
pins: 1, 2

## EEU-FM0J102
designator C?, comment 1000uF  (value not drawn)
CAP ALUM 1000UF 20% 6.3V RADIAL; Part Number: EEU-FM0J102; Manufacturer: Panasonic Electronic Components; TemperatureRange: -40C ~ 105C; Type: Polar; Ripple Current: 967.5mA @ 120Hz; Impedance: 38 mOhm; Value: 1000uF; PartId: 24821; Supplier 1: Digi-Key; Supplier Part Number 1: P12340-ND; ComponentLink1Description: Datasheet; ComponentLink1URL: https://industrial.panasonic.com/cdbs/www-data/pdf/RDF0000/ABA0000C63.pdf; ComponentLink2Description: Digi-Key Listing; ComponentLink2URL: https://www.digikey.com/product-detail/en/panasonic-electronic-components/EEU-FM0J102/P12340-ND/613701; Tolerance: 20%; Voltage: 6.3V; Price: 0.46; Device Package: Radial, Can, 10mm
footprint CAP AL TH D10 L5 H14.5
pins: 1, 2

## EEU-FM0J102B
designator C?, comment 1000uF  (value not drawn)
CAP ALUM 1000UF 20% 6.3V RADIAL; Part Number: EEU-FM0J102B; Manufacturer: Panasonic Electronic Components; TemperatureRange: -40C ~ 105C; Type: Polar; Ripple Current: 967.5mA @ 120Hz; Impedance: 38 mOhm; Value: 1000uF; PartId: 24578; Supplier 1: Digi-Key; Supplier Part Number 1: P19693TB-ND; ComponentLink1Description: Datasheet; ComponentLink1URL: http://industrial.panasonic.com/www-cgi/jvcr13pz.cgi?E+PZ+3+ABA0108+EEUFM0J102B+7+WW; ComponentLink2Description: Digi-Key Listing; ComponentLink2URL: https://www.digikey.com/product-detail/en/panasonic-electronic-components/EEU-FM0J102B/P19693TB-ND/616314; Tolerance: 20%; Voltage: 6.3V; Price: 0.1618; Device Package: Radial, Can, 10mm
footprint CAP AL TH D10 L5 H14.5
pins: 1, 2

## EEU-FM0J122
designator C?, comment 1200uF  (value not drawn)
CAP ALUM 1200UF 20% 6.3V RADIAL; Part Number: EEU-FM0J122; Manufacturer: Panasonic Electronic Components; TemperatureRange: -40C ~ 105C; Type: Polar; Ripple Current: 1.432A @ 120Hz; Impedance: 26 mOhm; Value: 1200uF; PartId: 25290; Supplier 1: Digi-Key; Supplier Part Number 1: P12341-ND; ComponentLink1Description: Datasheet; ComponentLink1URL: https://industrial.panasonic.com/cdbs/www-data/pdf/RDF0000/ABA0000C63.pdf; ComponentLink2Description: Digi-Key Listing; ComponentLink2URL: https://www.digikey.com/product-detail/en/panasonic-electronic-components/EEU-FM0J122/P12341-ND/613702; Tolerance: 20%; Voltage: 6.3V; Price: 0.63; Device Package: Radial, Can, 10mm
footprint CAP AL TH D10 L5 H17.5
pins: 1, 2

## EEU-FM0J222L
designator C?, comment 2200uF  (value not drawn)
CAP ALUM 2200UF 20% 6.3V RADIAL; Part Number: EEU-FM0J222L; Manufacturer: Panasonic Electronic Components; TemperatureRange: -40C ~ 105C; Type: Polar; Ripple Current: 1.976A @ 120Hz; Impedance: 18 mOhm; Value: 2200uF; PartId: 26064; Supplier 1: Digi-Key; Supplier Part Number 1: P12344-ND; ComponentLink1Description: Datasheet; ComponentLink1URL: http://industrial.panasonic.com/www-cgi/jvcr13pz.cgi?E+PZ+3+ABA0108+EEUFM0J222L+7+WW; ComponentLink2Description: Digi-Key Listing; ComponentLink2URL: https://www.digikey.com/product-detail/en/panasonic-electronic-components/EEU-FM0J222L/P12344-ND/613705; Tolerance: 20%; Voltage: 6.3V; Price: 0.69; Device Package: Radial, Can, 10mm
footprint CAP AL TH D10 L5 H30
pins: 1, 2

## EEU-FM0J332
designator C?, comment 3300uF  (value not drawn)
CAP ALUM 3300UF 20% 6.3V RADIAL; Part Number: EEU-FM0J332; Manufacturer: Panasonic Electronic Components; TemperatureRange: -40C ~ 105C; Type: Polar; Ripple Current: 2.08A @ 120Hz; Impedance: 18 mOhm; Value: 3300uF; PartId: 23280; Supplier 1: Digi-Key; Supplier Part Number 1: P12345-ND; ComponentLink1Description: Datasheet; ComponentLink1URL: https://industrial.panasonic.com/cdbs/www-data/pdf/RDF0000/ABA0000C63.pdf; ComponentLink2Description: Digi-Key Listing; ComponentLink2URL: https://www.digikey.com/product-detail/en/panasonic-electronic-components/EEU-FM0J332/P12345-ND/613706; Tolerance: 20%; Voltage: 6.3V; Price: 0.78; Device Package: Radial, Can, 12.5mm
footprint CAP AL TH D12.5 L5 H22
pins: 1, 2

## EEU-FM0J392
designator C?, comment 3900uF  (value not drawn)
CAP ALUM 3900UF 20% 6.3V RADIAL; Part Number: EEU-FM0J392; Manufacturer: Panasonic Electronic Components; TemperatureRange: -40C ~ 105C; Type: Polar; Ripple Current: 2.552A @ 120Hz; Impedance: 15 mOhm; Value: 3900uF; PartId: 23955; Supplier 1: Digi-Key; Supplier Part Number 1: P12346-ND; ComponentLink1Description: Datasheet; ComponentLink1URL: https://industrial.panasonic.com/cdbs/www-data/pdf/RDF0000/ABA0000C63.pdf; ComponentLink2Description: Digi-Key Listing; ComponentLink2URL: https://www.digikey.com/product-detail/en/panasonic-electronic-components/EEU-FM0J392/P12346-ND/613707; Tolerance: 20%; Voltage: 6.3V; Price: 0.98; Device Package: Radial, Can, 12.5mm
footprint CAP AL TH D12.5 L5 H27
pins: 1, 2

## EEU-FM0J472L
designator C?, comment 4700uF  (value not drawn)
CAP ALUM 4700UF 20% 6.3V RADIAL; Part Number: EEU-FM0J472L; Manufacturer: Panasonic Electronic Components; TemperatureRange: -40C ~ 105C; Type: Polar; Ripple Current: 2.904A @ 120Hz; Impedance: 13 mOhm; Value: 4700uF; PartId: 24240; Supplier 1: Digi-Key; Supplier Part Number 1: P12347-ND; ComponentLink1Description: Datasheet; ComponentLink1URL: http://industrial.panasonic.com/www-cgi/jvcr13pz.cgi?E+PZ+3+ABA0108+EEUFM0J472L+7+WW; ComponentLink2Description: Digi-Key Listing; ComponentLink2URL: https://www.digikey.com/product-detail/en/panasonic-electronic-components/EEU-FM0J472L/P12347-ND/613708; Tolerance: 20%; Voltage: 6.3V; Price: 1.01; Device Package: Radial, Can, 12.5mm
footprint CAP AL TH D12.5 L5 H35.5
pins: 1, 2

## EEU-FM0J562S
designator C?, comment 5600uF  (value not drawn)
CAP ALUM 5600UF 20% 6.3V RADIAL; Part Number: EEU-FM0J562S; Manufacturer: Panasonic Electronic Components; TemperatureRange: -40C ~ 105C; Type: Polar; Ripple Current: 2.64A @ 120Hz; Impedance: 17 mOhm; Value: 5600uF; PartId: 26414; Supplier 1: Digi-Key; Supplier Part Number 1: P12350-ND; ComponentLink1Description: Datasheet; ComponentLink1URL: http://industrial.panasonic.com/www-cgi/jvcr13pz.cgi?E+PZ+3+ABA0108+EEUFM0J562S+7+WW; ComponentLink2Description: Digi-Key Listing; ComponentLink2URL: https://www.digikey.com/product-detail/en/panasonic-electronic-components/EEU-FM0J562S/P12350-ND/613711; Tolerance: 20%; Voltage: 6.3V; Price: 1.08; Device Package: Radial, Can, 16mm
footprint CAP AL TH D16 L7.5 H22
pins: 1, 2

## EEU-FM0J682
designator C?, comment 6800uF  (value not drawn)
CAP ALUM 6800UF 20% 6.3V RADIAL; Part Number: EEU-FM0J682; Manufacturer: Panasonic Electronic Components; TemperatureRange: -40C ~ 105C; Type: Polar; Ripple Current: 3.056A @ 120Hz; Impedance: 14 mOhm; Value: 6800uF; PartId: 26872; Supplier 1: Digi-Key; Supplier Part Number 1: P12351-ND; ComponentLink1Description: Datasheet; ComponentLink1URL: https://industrial.panasonic.com/cdbs/www-data/pdf/RDF0000/ABA0000C63.pdf; ComponentLink2Description: Digi-Key Listing; ComponentLink2URL: https://www.digikey.com/product-detail/en/panasonic-electronic-components/EEU-FM0J682/P12351-ND/613712; Tolerance: 20%; Voltage: 6.3V; Price: 1.28; Device Package: Radial, Can, 16mm
footprint CAP AL TH D16 L7.5 H27
pins: 1, 2

## EEU-FM1A102
designator C?, comment 1000uF  (value not drawn)
CAP ALUM 1000UF 20% 10V RADIAL; Part Number: EEU-FM1A102; Manufacturer: Panasonic Electronic Components; TemperatureRange: -40C ~ 105C; Type: Polar; Ripple Current: 1.343A @ 120Hz; Impedance: 26 mOhm; Value: 1000uF; PartId: 25271; Supplier 1: Digi-Key; Supplier Part Number 1: P12353-ND; ComponentLink1Description: Datasheet; ComponentLink1URL: https://industrial.panasonic.com/cdbs/www-data/pdf/RDF0000/ABA0000C63.pdf; ComponentLink2Description: Digi-Key Listing; ComponentLink2URL: https://www.digikey.com/product-detail/en/panasonic-electronic-components/EEU-FM1A102/P12353-ND/613714; Tolerance: 20%; Voltage: 10V; Price: 0.61; Device Package: Radial, Can, 10mm
footprint CAP AL TH D10 L5 H17.5
pins: 1, 2

## EEU-FM1A102B
designator C?, comment 1000uF  (value not drawn)
CAP ALUM 1000UF 20% 10V RADIAL; Part Number: EEU-FM1A102B; Manufacturer: Panasonic Electronic Components; TemperatureRange: -40C ~ 105C; Type: Polar; Ripple Current: 1.343A @ 120Hz; Impedance: 26 mOhm; Value: 1000uF; PartId: 25055; Supplier 1: Digi-Key; Supplier Part Number 1: P19694TB-ND; ComponentLink1Description: Datasheet; ComponentLink1URL: http://industrial.panasonic.com/www-cgi/jvcr13pz.cgi?E+PZ+3+ABA0108+EEUFM1A102B+7+WW; ComponentLink2Description: Digi-Key Listing; ComponentLink2URL: https://www.digikey.com/product-detail/en/panasonic-electronic-components/EEU-FM1A102B/P19694TB-ND/616325; Tolerance: 20%; Voltage: 10V; Price: 0.2156; Device Package: Radial, Can, 10mm
footprint CAP AL TH D10 L5 H17.5
pins: 1, 2

## EEU-FM1A122
designator C?, comment 1200uF  (value not drawn)
CAP ALUM 1200UF 20% 10V RADIAL; Part Number: EEU-FM1A122; Manufacturer: Panasonic Electronic Components; TemperatureRange: -40C ~ 105C; Type: Polar; Ripple Current: 1.744A @ 120Hz; Impedance: 19 mOhm; Value: 1200uF; PartId: 25944; Supplier 1: Digi-Key; Supplier Part Number 1: P12355-ND; ComponentLink1Description: Datasheet; ComponentLink1URL: https://industrial.panasonic.com/cdbs/www-data/pdf/RDF0000/ABA0000C63.pdf; ComponentLink2Description: Digi-Key Listing; ComponentLink2URL: https://www.digikey.com/product-detail/en/panasonic-electronic-components/EEU-FM1A122/P12355-ND/613716; Tolerance: 20%; Voltage: 10V; Price: 0.75; Device Package: Radial, Can, 10mm
footprint CAP AL TH D10 L5 H22
pins: 1, 2

## EEU-FM1A222
designator C?, comment 2200uF  (value not drawn)
CAP ALUM 2200UF 20% 10V RADIAL; Part Number: EEU-FM1A222; Manufacturer: Panasonic Electronic Components; TemperatureRange: -40C ~ 105C; Type: Polar; Ripple Current: 2.08A @ 120Hz; Impedance: 18 mOhm; Value: 2200uF; PartId: 23345; Supplier 1: Digi-Key; Supplier Part Number 1: P12357-ND; ComponentLink1Description: Datasheet; ComponentLink1URL: https://industrial.panasonic.com/cdbs/www-data/pdf/RDF0000/ABA0000C63.pdf; ComponentLink2Description: Digi-Key Listing; ComponentLink2URL: https://www.digikey.com/product-detail/en/panasonic-electronic-components/EEU-FM1A222/P12357-ND/613718; Tolerance: 20%; Voltage: 10V; Price: 0.85; Device Package: Radial, Can, 12.5mm
footprint CAP AL TH D12.5 L5 H22
pins: 1, 2

## EEU-FM1A332
designator C?, comment 3300uF  (value not drawn)
CAP ALUM 3300UF 20% 10V RADIAL; Part Number: EEU-FM1A332; Manufacturer: Panasonic Electronic Components; TemperatureRange: -40C ~ 105C; Type: Polar; Ripple Current: 2.552A @ 120Hz; Impedance: 15 mOhm; Value: 3300uF; PartId: 23923; Supplier 1: Digi-Key; Supplier Part Number 1: P12735-ND; ComponentLink1Description: Datasheet; ComponentLink1URL: https://industrial.panasonic.com/cdbs/www-data/pdf/RDF0000/ABA0000C63.pdf; ComponentLink2Description: Digi-Key Listing; ComponentLink2URL: https://www.digikey.com/product-detail/en/panasonic-electronic-components/EEU-FM1A332/P12735-ND/613719; Tolerance: 20%; Voltage: 10V; Price: 0.96; Device Package: Radial, Can, 12.5mm
footprint CAP AL TH D12.5 L5 H27
pins: 1, 2

## EEU-FM1A332B
designator C?, comment 3300uF  (value not drawn)
CAP ALUM 3300UF 20% 10V RADIAL; Part Number: EEU-FM1A332B; Manufacturer: Panasonic Electronic Components; TemperatureRange: -40C ~ 105C; Type: Polar; Ripple Current: 2.552A @ 120Hz; Impedance: 15 mOhm; Value: 3300uF; PartId: 23810; Supplier 1: Digi-Key; Supplier Part Number 1: P19695TB-ND; ComponentLink1Description: Datasheet; ComponentLink1URL: http://industrial.panasonic.com/www-cgi/jvcr13pz.cgi?E+PZ+3+ABA0108+EEUFM1A332B+7+WW; ComponentLink2Description: Digi-Key Listing; ComponentLink2URL: https://www.digikey.com/product-detail/en/panasonic-electronic-components/EEU-FM1A332B/P19695TB-ND/616330; Tolerance: 20%; Voltage: 10V; Price: 0.4122; Device Package: Radial, Can, 12.5mm
footprint CAP AL TH D12.5 L5 H27
pins: 1, 2

## EEU-FM1A392L
designator C?, comment 3900uF  (value not drawn)
CAP ALUM 3900UF 20% 10V RADIAL; Part Number: EEU-FM1A392L; Manufacturer: Panasonic Electronic Components; TemperatureRange: -40C ~ 105C; Type: Polar; Ripple Current: 2.904A @ 120Hz; Impedance: 13 mOhm; Value: 3900uF; PartId: 24242; Supplier 1: Digi-Key; Supplier Part Number 1: P12736-ND; ComponentLink1Description: Datasheet; ComponentLink1URL: https://industrial.panasonic.com/cdbs/www-data/pdf/RDF0000/ABA0000C63.pdf; ComponentLink2Description: Digi-Key Listing; ComponentLink2URL: https://www.digikey.com/product-detail/en/panasonic-electronic-components/EEU-FM1A392L/P12736-ND/613720; Tolerance: 20%; Voltage: 10V; Price: 1.01; Device Package: Radial, Can, 12.5mm
footprint CAP AL TH D12.5 L5 H35.5
pins: 1, 2

## EEU-FM1A392S
designator C?, comment 3900uF  (value not drawn)
CAP ALUM 3900UF 20% 10V RADIAL; Part Number: EEU-FM1A392S; Manufacturer: Panasonic Electronic Components; TemperatureRange: -40C ~ 105C; Type: Polar; Ripple Current: 2.64A @ 120Hz; Impedance: 17 mOhm; Value: 3900uF; PartId: 26416; Supplier 1: Digi-Key; Supplier Part Number 1: P12737-ND; ComponentLink1Description: Datasheet; ComponentLink1URL: http://industrial.panasonic.com/www-cgi/jvcr13pz.cgi?E+PZ+3+ABA0108+EEUFM1A392S+7+WW; ComponentLink2Description: Digi-Key Listing; ComponentLink2URL: https://www.digikey.com/product-detail/en/panasonic-electronic-components/EEU-FM1A392S/P12737-ND/613721; Tolerance: 20%; Voltage: 10V; Price: 1.08; Device Package: Radial, Can, 16mm
footprint CAP AL TH D16 L7.5 H22
pins: 1, 2

## EEU-FM1A562
designator C?, comment 5600uF  (value not drawn)
CAP ALUM 5600UF 20% 10V RADIAL; Part Number: EEU-FM1A562; Manufacturer: Panasonic Electronic Components; TemperatureRange: -40C ~ 105C; Type: Polar; Ripple Current: 3.056A @ 120Hz; Impedance: 14 mOhm; Value: 5600uF; PartId: 26870; Supplier 1: Digi-Key; Supplier Part Number 1: P12363-ND; ComponentLink1Description: Datasheet; ComponentLink1URL: https://industrial.panasonic.com/cdbs/www-data/pdf/RDF0000/ABA0000C63.pdf; ComponentLink2Description: Digi-Key Listing; ComponentLink2URL: https://www.digikey.com/product-detail/en/panasonic-electronic-components/EEU-FM1A562/P12363-ND/613724; Tolerance: 20%; Voltage: 10V; Price: 1.28; Device Package: Radial, Can, 16mm
footprint CAP AL TH D16 L7.5 H27
pins: 1, 2

## EEU-FM1A681
designator C?, comment 680uF  (value not drawn)
CAP ALUM 680UF 20% 10V RADIAL; Part Number: EEU-FM1A681; Manufacturer: Panasonic Electronic Components; TemperatureRange: -40C ~ 105C; Type: Polar; Ripple Current: 967.5mA @ 120Hz; Impedance: 38 mOhm; Value: 680uF; PartId: 24850; Supplier 1: Digi-Key; Supplier Part Number 1: P12364-ND; ComponentLink1Description: Datasheet; ComponentLink1URL: https://industrial.panasonic.com/cdbs/www-data/pdf/RDF0000/ABA0000C63.pdf; ComponentLink2Description: Digi-Key Listing; ComponentLink2URL: https://www.digikey.com/product-detail/en/panasonic-electronic-components/EEU-FM1A681/P12364-ND/613725; Tolerance: 20%; Voltage: 10V; Price: 0.47; Device Package: Radial, Can, 10mm
footprint CAP AL TH D10 L5 H14.5
pins: 1, 2